# Altium footprint library CommonPcb.PcbLib: 194 footprints (part 7 of 13)
Each footprint in its own frame and in the unit in brackets; x right, y up, seen from the top. Pads: shape width x height; smd on the part's side, far side on the other; paste and mask are expansions set on the pad; w line width, h text height; cw(c..) or ccw(c..) is an arc to the next point about the centre after c.
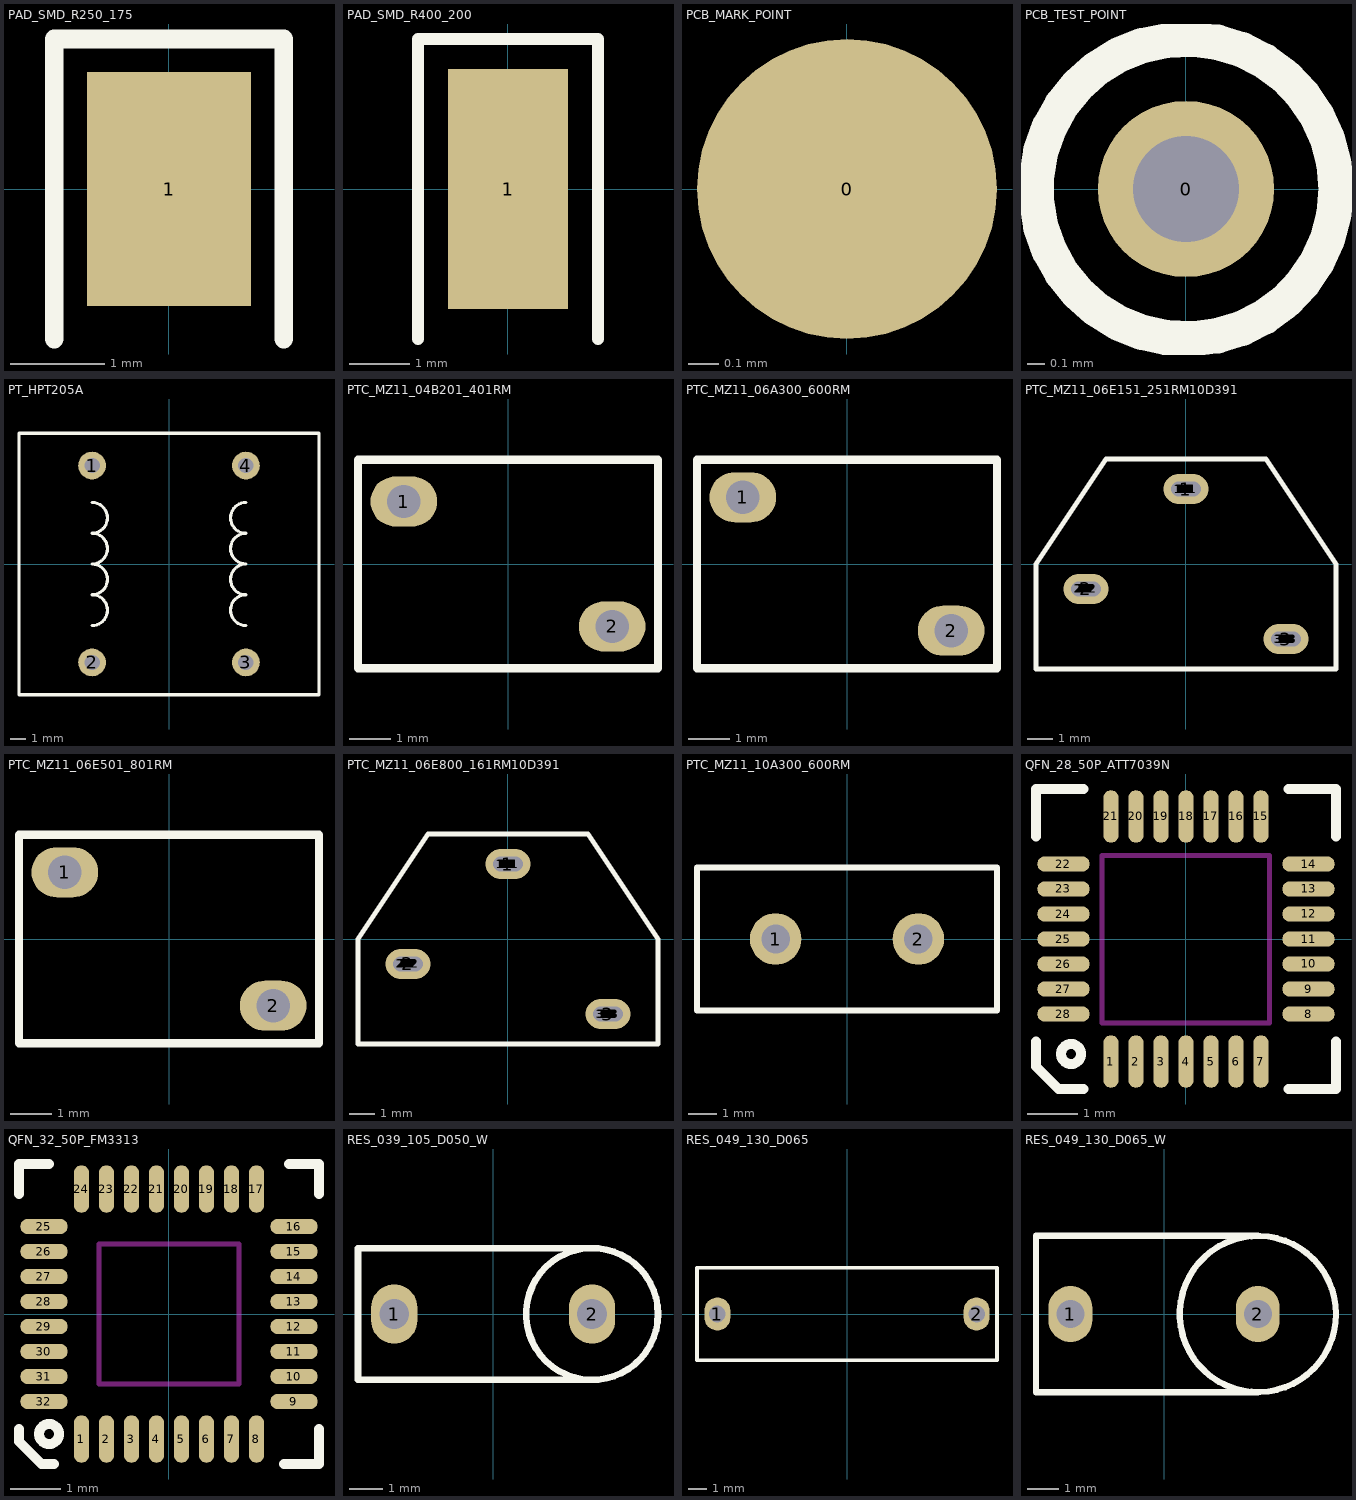
[diagram p6: the footprints below, top view; thin cyan lines are the x and y axes]

## PAD_SMD_R250_175 [mm] "R250_175"
pads (1):
  rect 1.75x2.5 smd paste+0 mask+0.1: 1(0,0)
Top Overlay:
  lines w0.2: -1.225,-1.6 -1.225,1.6 1.225,1.6 1.225,-1.6
3D body: height 0, standoff 0, extent -1.224,-1.599 1.224,1.599

## PAD_SMD_R400_200 [mm] "R400_200"
pads (1):
  rect 2x4 smd paste+0 mask+0.1: 1(0,0)
Top Overlay:
  lines w0.2: -1.5,-2.5 -1.5,2.5 1.5,2.5 1.5,-2.5
3D body: height 0, standoff 0, extent -1.5,-2.5 1.5,2.5

## PCB_MARK_POINT [mm] "MARK POINT"
pads (1):
  round 1 smd paste-0.5 mask+1: 0(0,0)

## PCB_TEST_POINT [mm] "TEST_POINT"
pads (1):
  round 1 hole 0.6 mask+0.1: 0(0,0)
Top Overlay:
  circle w0.2: c0,0 r0.85
3D body: height 0, standoff 0, extent -0.849,-0.849 0.849,0.849

## PT_HPT205A [mm] "HPT205A"
height 18.8
pads (4):
  round 1.8 hole 1 mask+0.1: 1(-5,6.4) 2(-5,-6.4) 3(5,-6.4) 4(5,6.4)
Top Overlay:
  lines w0.2: -5,-4 ccw(c-5,-3) -4,-3 ccw(c-5,-3) -5,-2 ccw(c-5,-1) -4,-1 ccw(c-5,-1) -5,0 ccw(c-5,1) -4,1 ccw(c-5,1) -5,2 ccw(c-5,3) -4,3 ccw(c-5,3) -5,4 ; 5,-4 cw(c5,-3) 4,-3 cw(c5,-3) 5,-2 cw(c5,-1) 4,-1 cw(c5,-1) 5,0 cw(c5,1) 4,1 cw(c5,1) 5,2 cw(c5,3) 4,3 cw(c5,3) 5,4 ; -9.75,-8.5 9.75,-8.5 9.75,8.5 -9.75,8.5 -9.75,-8.5
3D body: height 18.8, standoff 0, extent -9.749,-8.499 9.749,8.499

## PTC_MZ11_04B201_401RM [mm] "PTC"
pads (2):
  oval 1.6x1.2 hole 0.8 mask+0.1: 1(-2.5,1.5) 2(2.5,-1.5)
Top Overlay:
  lines w0.2: -3.6,-2.5 3.6,-2.5 3.6,2.5 -3.6,2.5 -3.6,-2.5
3D body: height 0, standoff 0, extent -3.6,-2.5 3.6,2.5

## PTC_MZ11_06A300_600RM [mm] "PTC"
pads (2):
  oval 1.6x1.2 hole 0.8 mask+0.1: 1(-2.5,1.6) 2(2.5,-1.6)
Top Overlay:
  lines w0.2: -3.6,-2.5 -3.6,2.5 3.6,2.5 3.6,-2.5 -3.6,-2.5
3D body: height 0, standoff 0, extent -3.6,-2.5 3.6,2.5

## PTC_MZ11_06E151_251RM10D391 [mm] "PTC"
pads (78):
  round 0.6 hole 0.6 mask+0: 1(-0.3,3) 1(-0.275,3) 1(-0.25,3) 1(-0.225,3) 1(-0.2,3) 1(-0.175,3) 1(-0.15,3) 1(-0.125,3) 1(-0.1,3) 1(-0.075,3) 1(-0.05,3) 1(-0.025,3) 1(0,3) 1(0.025,3) 1(0.05,3) 1(0.075,3) 1(0.1,3) 1(0.125,3) 1(0.15,3) 1(0.175,3) 1(0.2,3) 1(0.225,3) 1(0.25,3) 1(0.275,3) 1(0.3,3) 2(-4.3,-1) 2(-4.275,-1) 2(-4.25,-1) 2(-4.225,-1) 2(-4.2,-1) 2(-4.175,-1) 2(-4.15,-1) 2(-4.125,-1) 2(-4.1,-1) 2(-4.075,-1) 2(-4.05,-1) 2(-4.025,-1) 2(-4,-1) 2(-3.975,-1) 2(-3.95,-1) 2(-3.925,-1) 2(-3.9,-1) 2(-3.875,-1) 2(-3.85,-1) 2(-3.825,-1) 2(-3.8,-1) 2(-3.775,-1) 2(-3.75,-1) 2(-3.725,-1) 2(-3.7,-1) 3(3.7,-3) 3(3.725,-3) 3(3.75,-3) 3(3.775,-3) 3(3.8,-3) 3(3.825,-3) 3(3.85,-3) 3(3.875,-3) 3(3.9,-3) 3(3.925,-3) 3(3.95,-3) 3(3.975,-3) 3(4,-3) 3(4.025,-3) 3(4.05,-3) 3(4.075,-3) 3(4.1,-3) 3(4.125,-3) 3(4.15,-3) 3(4.175,-3) 3(4.2,-3) 3(4.225,-3) 3(4.25,-3) 3(4.275,-3) 3(4.3,-3)
  oval 1.8x1.2 hole 0.6 mask+0.1: 1(0,3) 2(-4,-1) 3(4,-3)
Top Overlay:
  lines w0.2: -6,-4.2 -6,0 -3.2,4.2 3.2,4.2 6,0 6,-4.2 -6,-4.2
3D body: height 0, standoff 0, extent -6.001,-4.201 6.001,4.201

## PTC_MZ11_06E501_801RM [mm] "PTC"
pads (2):
  oval 1.6x1.2 hole 0.8 mask+0.1: 1(-2.5,1.6) 2(2.5,-1.6)
Top Overlay:
  lines w0.2: -3.6,-2.5 -3.6,2.5 3.6,2.5 3.6,-2.5 -3.6,-2.5
3D body: height 0, standoff 0, extent -3.6,-2.5 3.6,2.5

## PTC_MZ11_06E800_161RM10D391 [mm] "PTC"
pads (78):
  round 0.6 hole 0.6 mask+0: 1(-0.3,3) 1(-0.275,3) 1(-0.25,3) 1(-0.225,3) 1(-0.2,3) 1(-0.175,3) 1(-0.15,3) 1(-0.125,3) 1(-0.1,3) 1(-0.075,3) 1(-0.05,3) 1(-0.025,3) 1(0,3) 1(0.025,3) 1(0.05,3) 1(0.075,3) 1(0.1,3) 1(0.125,3) 1(0.15,3) 1(0.175,3) 1(0.2,3) 1(0.225,3) 1(0.25,3) 1(0.275,3) 1(0.3,3) 2(-4.3,-1) 2(-4.275,-1) 2(-4.25,-1) 2(-4.225,-1) 2(-4.2,-1) 2(-4.175,-1) 2(-4.15,-1) 2(-4.125,-1) 2(-4.1,-1) 2(-4.075,-1) 2(-4.05,-1) 2(-4.025,-1) 2(-4,-1) 2(-3.975,-1) 2(-3.95,-1) 2(-3.925,-1) 2(-3.9,-1) 2(-3.875,-1) 2(-3.85,-1) 2(-3.825,-1) 2(-3.8,-1) 2(-3.775,-1) 2(-3.75,-1) 2(-3.725,-1) 2(-3.7,-1) 3(3.7,-3) 3(3.725,-3) 3(3.75,-3) 3(3.775,-3) 3(3.8,-3) 3(3.825,-3) 3(3.85,-3) 3(3.875,-3) 3(3.9,-3) 3(3.925,-3) 3(3.95,-3) 3(3.975,-3) 3(4,-3) 3(4.025,-3) 3(4.05,-3) 3(4.075,-3) 3(4.1,-3) 3(4.125,-3) 3(4.15,-3) 3(4.175,-3) 3(4.2,-3) 3(4.225,-3) 3(4.25,-3) 3(4.275,-3) 3(4.3,-3)
  oval 1.8x1.2 hole 0.6 mask+0.1: 1(0,3) 2(-4,-1) 3(4,-3)
Top Overlay:
  lines w0.2: -6,-4.2 -6,0 -3.2,4.2 3.2,4.2 6,0 6,-4.2 -6,-4.2
3D body: height 0, standoff 0, extent -6.001,-4.201 6.001,4.201

## PTC_MZ11_10A300_600RM [mm] "PTC"
pads (2):
  round 1.8 hole 1 mask+0.1: 1(-2.5,0) 2(2.5,0)
Top Overlay:
  lines w0.2: -5.25,-2.5 -5.25,2.5 5.25,2.5 5.25,-2.5 -5.25,-2.5
3D body: height 0, standoff 0, extent -5.249,-2.499 5.249,2.499

## QFN_28_50P_ATT7039N [mm] "QFN_28_50P_5_5"
height 0.8
pads (28):
  oval 0.3x1.05 smd mask+0.05: 1(-1.5,-2.45) 2(-1,-2.45) 3(-0.5,-2.45) 4(0,-2.45) 5(0.5,-2.45) 6(1,-2.45) 7(1.5,-2.45) 15(1.5,2.45) 16(1,2.45) 17(0.5,2.45) 18(0,2.45) 19(-0.5,2.45) 20(-1,2.45) 21(-1.5,2.45)
  oval 1.05x0.3 smd mask+0.05: 8(2.45,-1.5) 9(2.45,-1) 10(2.45,-0.5) 11(2.45,0) 12(2.45,0.5) 13(2.45,1) 14(2.45,1.5) 22(-2.45,1.5) 23(-2.45,1) 24(-2.45,0.5) 25(-2.45,0) 26(-2.45,-0.5) 27(-2.45,-1) 28(-2.45,-1.5)
Top Overlay:
  circle w0.2: c-2.3,-2.3 r0.2
  lines w0.2: -3,-2.05 -3,-2.55 -2.55,-3 -2.05,-3 ; -3,2.05 -3,3 -2.05,3 ; 2.05,-3 3,-3 3,-2.05 ; 2.05,3 3,3 3,2.05
Keep-Out Layer:
  lines w0.1: -1.675,-1.675 -1.675,1.675 1.675,1.675 1.675,-1.675 -1.675,-1.675
3D body: height 0, standoff 0, extent -3,-3 3,3

## QFN_32_50P_FM3313 [mm] "QFN_32_50P_5_5"
height 0.8
pads (32):
  oval 0.3x0.95 smd mask+0.05: 1(-1.75,-2.5) 2(-1.25,-2.5) 3(-0.75,-2.5) 4(-0.25,-2.5) 5(0.25,-2.5) 6(0.75,-2.5) 7(1.25,-2.5) 8(1.75,-2.5) 17(1.75,2.5) 18(1.25,2.5) 19(0.75,2.5) 20(0.25,2.5) 21(-0.25,2.5) 22(-0.75,2.5) 23(-1.25,2.5) 24(-1.75,2.5)
  oval 0.95x0.3 smd mask+0.05: 9(2.5,-1.75) 10(2.5,-1.25) 11(2.5,-0.75) 12(2.5,-0.25) 13(2.5,0.25) 14(2.5,0.75) 15(2.5,1.25) 16(2.5,1.75) 25(-2.5,1.75) 26(-2.5,1.25) 27(-2.5,0.75) 28(-2.5,0.25) 29(-2.5,-0.25) 30(-2.5,-0.75) 31(-2.5,-1.25) 32(-2.5,-1.75)
Top Overlay:
  circle w0.2: c-2.4,-2.4 r0.2
  lines w0.2: -3,-2.3 -3,-2.55 -2.55,-3 -2.3,-3 ; -3,2.4 -3,3 -2.4,3 ; 2.3,-3 3,-3 3,-2.3 ; 2.4,3 3,3 3,2.4
Keep-Out Layer:
  lines w0.1: -1.4,-1.4 -1.4,1.4 1.4,1.4 1.4,-1.4 1.3,-1.4 -1.4,-1.4
3D body: height 0, standoff 0, extent -3,-3 3,3

## RES_039_105_D050_W [mm] "Metal Film Resistor 1W"
height 10
pads (2):
  oval 1.4x1.8 hole 0.9 mask+0.1: 1(-3,0) 2(3,0)
Top Overlay:
  circle w0.2: c3,0 r2
  lines w0.2: 3,-2 -4.1,-2 -4.1,2 3,2
3D body: height 10, standoff 0, extent -4.1,-2.001 5.001,2.001

## RES_049_130_D065 [mm] "Carbon Film Resistor 2W"
pads (2):
  oval 1.4x1.8 hole 0.9 mask+0.1: 1(-7,0) 2(7,0)
Top Overlay:
  lines w0.2: -8.1,-2.5 8.1,-2.5 8.1,2.5 -8.1,2.5 -8.1,-2.5
3D body: height 0, standoff 0, extent -8.1,-2.5 8.1,2.5

## RES_049_130_D065_W [mm] "Carbon Film Resistor 2W"
height 13
pads (2):
  oval 1.4x1.8 hole 0.9 mask+0.1: 1(-3,0) 2(3,0)
Top Overlay:
  circle w0.2: c3,0 r2.5
  lines w0.2: 3,-2.5 -4.1,-2.5 -4.1,2.5 3,2.5
3D body: height 0, standoff 0, extent -4.1,-2.501 5.501,2.501